# Altium integrated library ON Semi Signal Management Audio Amplifiers.IntLib: 87 symbols (part 3 of 4)
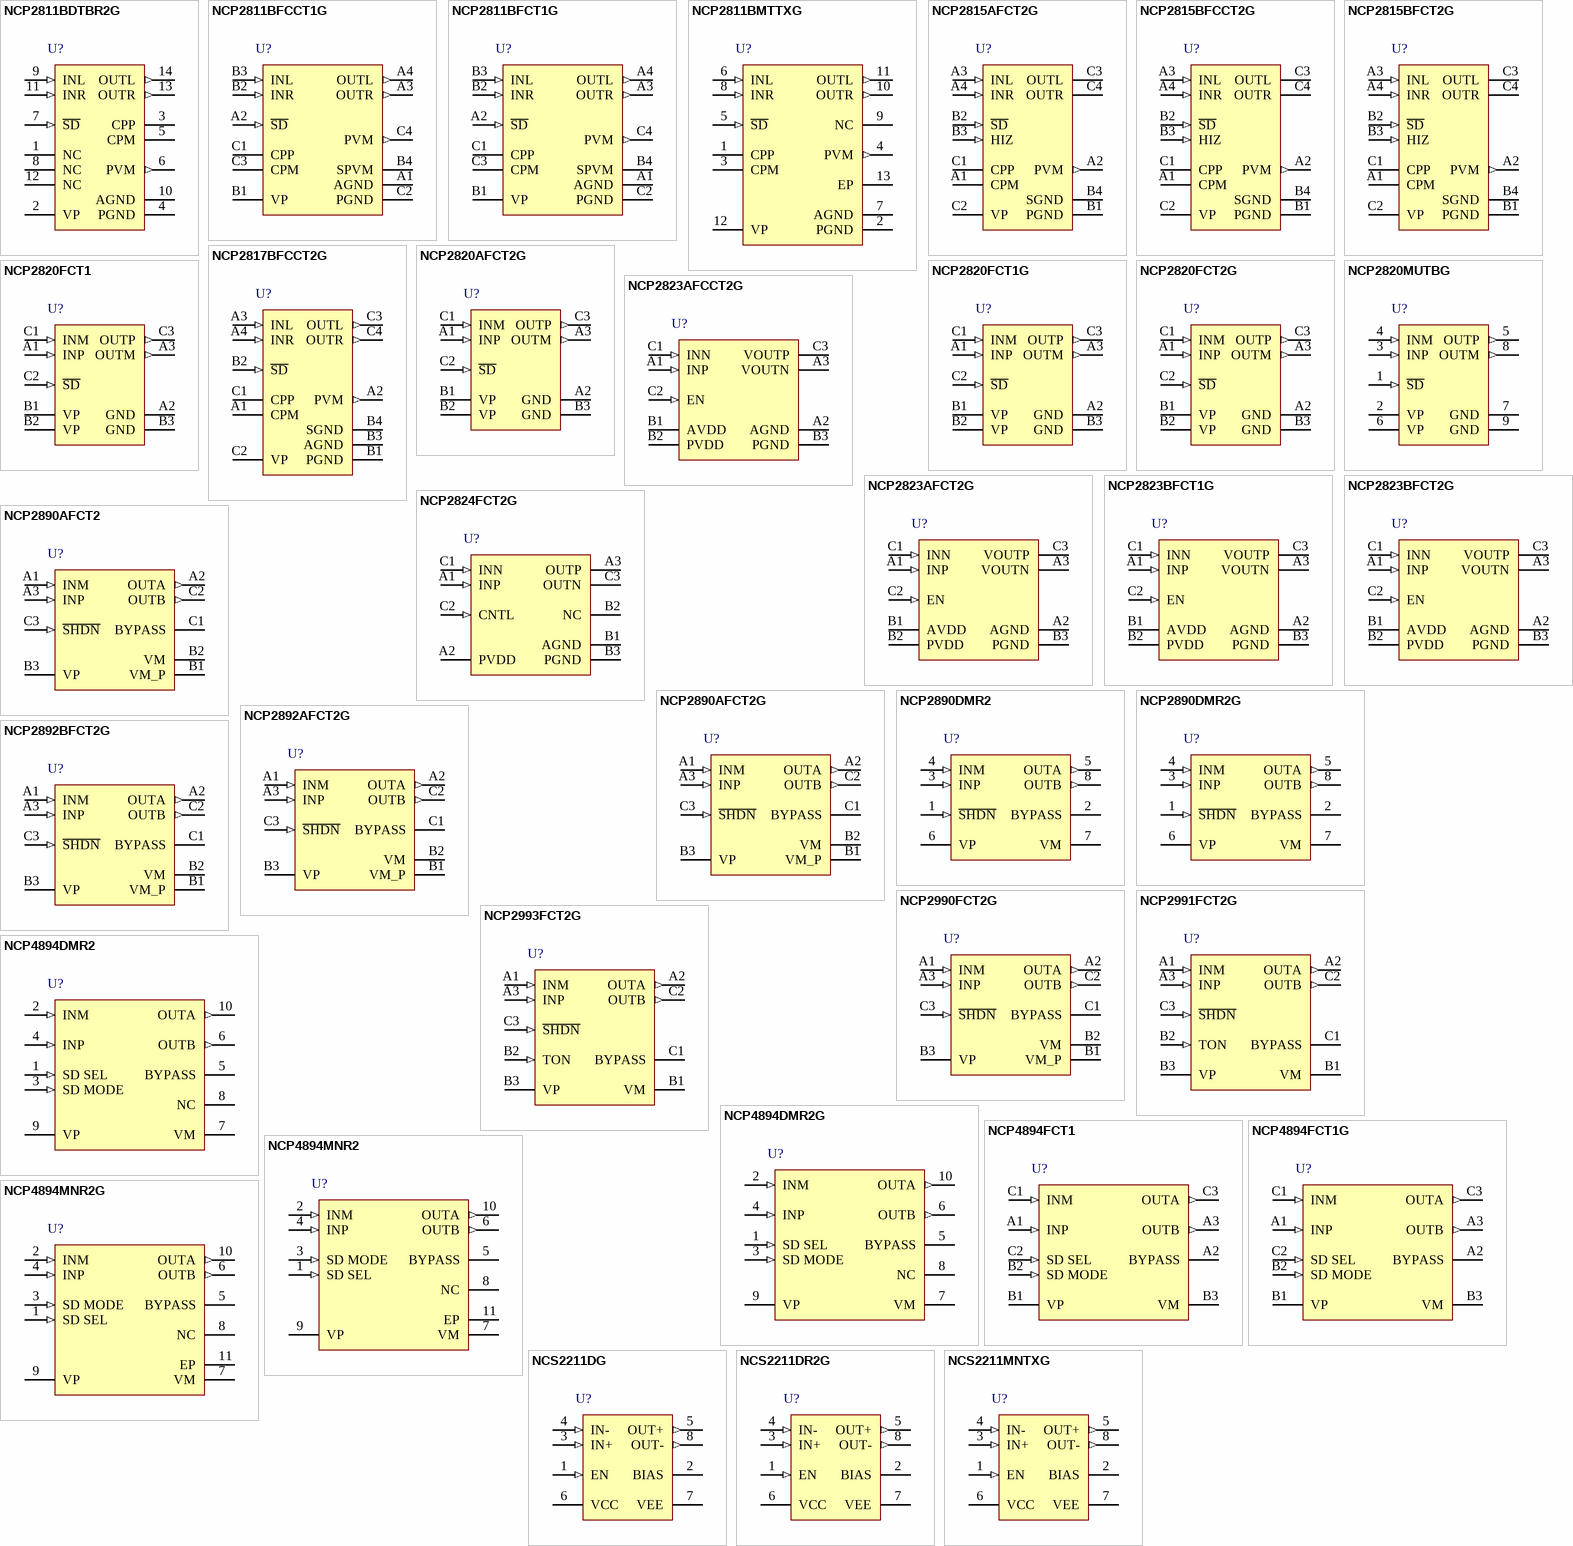
[diagram p5: symbols NCP2811BDTBR2G to NCS2211MNTXG]

## NCP2820FCT2G
designator U?
2.65 W Filterless Class-D Audio Power Amplifier, -40 to 85 degC, 9-Pin FLIP-CHIP, Pb-Free, Tape and Reel; Manufacturer: On Semiconductor; PartNumber: NCP2820FCT2G; ton Typ (ms): 9; DatasheetVersion: Rev. 8; PackageVersion: Rev. O, 08/2004; PackageReference: FLIP-CHIP-9-499AL-01; PackageDescription: 9-Ball Flip Chip Ball Grid Array, Body 1.45 x 1.45 mm, Pitch 0.5 mm; Supplier 1: Digi-Key; Supplier Part Number 1: NCP2820FCT2GOSTR-ND; Supplier 2: Digi-Key; Supplier Part Number 2: NCP2820FCT2GOSCT-ND; Supplier 3: Digi-Key; Supplier Part Number 3: NCP2820FCT2GOSDKR-ND; Supplier 4: Mouser; Supplier Part Number 4: 863-NCP2820FCT2G; Packing: Tape and Reel; RoHS: TRUE; Mounting Technology: Surface Mount; ComponentLink1Description: Manufacturer URL; ComponentLink1URL: http://www.onsemi.com/; ComponentLink2Description: Datasheet; ComponentLink2URL: http://www.onsemi.com/pub/Collateral/NCP2820-D.PDF; ComponentLink3Description: Package Specification; ComponentLink3URL: http://www.onsemi.com/pub_link/Collateral/499AL.PDF
footprint ONSC-FLIP-CHIP-9-499AL-01 (BGA, 9-Balls, Body 1.45x1.45mm, Pitch 0.5mm)
pins: A1 INP (in) "Positive Differential Input.", A2 GND (power) "Analog Ground.", A3 OUTM (out) "Negative BTL Output.", B1 VP (power) "Analog Positive Supply. Range: 2.5 V - 5.5 V.", B2 VP (power) "Power Analog Positive Supply. Range: 2.5 V - 5.5 V.", B3 GND (power) "Analog Ground.", C1 INM (in) "Negative Differential Input.", C2 ~{SD} (in) "The device enters in Shutdown Mode when a low level is applied on this pin. An internal 300 kohm resistor will force the device in shutdown mode if no signal is applied to this pin. It also helps to save space and cost.", C3 OUTP (out) "Positive BTL Output."

## NCP2820MUTBG
designator U?
2.65 W Filterless Class-D Audio Power Amplifier, -40 to 85 degC, 8-Pin UDFN, Pb-Free, Tape and Reel; Manufacturer: On Semiconductor; PartNumber: NCP2820MUTBG; ton Typ (ms): 9; DatasheetVersion: Rev. 8; PackageVersion: Rev. B, 09/2006; PackageReference: UDFN-8-506AV_B; PackageDescription: 8-Pin Small Outline No-Lead, Body 2 x 2.2 mm, Pitch 0.5 mm; Supplier 1: Digi-Key; Supplier Part Number 1: NCP2820MUTBGOSTR-ND; Supplier 2: Digi-Key; Supplier Part Number 2: NCP2820MUTBGOSCT-ND; Supplier 3: Digi-Key; Supplier Part Number 3: NCP2820MUTBGOSDKR-ND; Supplier 4: Newark; Supplier Part Number 4: 27M2532; Supplier 5: Mouser; Supplier Part Number 5: 863-NCP2820MUTBG; Packing: Tape and Reel; RoHS: TRUE; Mounting Technology: Surface Mount; ComponentLink1Description: Manufacturer URL; ComponentLink1URL: http://www.onsemi.com/; ComponentLink2Description: Datasheet; ComponentLink2URL: http://www.onsemi.com/pub/Collateral/NCP2820-D.PDF; ComponentLink3Description: Package Specification; ComponentLink3URL: http://www.onsemi.cn/pub_link/Collateral/NCP2820-D.PDF
footprint ONSC-UDFN-8-506AV_B_V (SON, 8-Leads, Body 2.2x2mm, Pitch 0.5mm, Thermal Pad 1.6x0.8mm)
pins: 1 ~{SD} (in) "The device enters in Shutdown Mode when a low level is applied on this pin. An internal 300 kohm resistor will force the device in shutdown mode if no signal is applied to this pin. It also helps to save space and cost.", 2 VP (power) "Analog Positive Supply. Range: 2.5 V - 5.5 V.", 3 INP (in) "Positive Differential Input.", 4 INM (in) "Negative Differential Input.", 5 OUTP (out) "Positive BTL Output.", 6 VP (power) "Power Analog Positive Supply. Range: 2.5 V - 5.5 V.", 7 GND (power) "Analog Ground.", 8 OUTM (out) "Negative BTL Output.", 9 GND (power) "Analog Ground."

## NCP2823AFCCT2G
designator U?
High Efficiency 3 W Filterless Class-D Audio Amplifier, -40 to 85 degC, 9-Pin FLIP-CHIP, Pb-Free, Tape and Reel; Manufacturer: On Semiconductor; PartNumber: NCP2823AFCCT2G; Efficiency Typ (%): 92; ISD Typ (nA): 10; ton Typ (ms): 7.4; DatasheetVersion: Rev. 2; PackageVersion: Rev. O, 08/2004; PackageReference: FLIP-CHIP-9-499AL-01; PackageDescription: 9-Ball Flip Chip Ball Grid Array, Body 1.45 x 1.45 mm, Pitch 0.5 mm; Packing: Tape and Reel; RoHS: TRUE; Mounting Technology: Surface Mount; ComponentLink1Description: Manufacturer URL; ComponentLink1URL: http://www.onsemi.com/; ComponentLink2Description: Datasheet; ComponentLink2URL: http://www.onsemi.com/pub_link/Collateral/NCP2823-D.PDF; ComponentLink3Description: Package Specification; ComponentLink3URL: http://www.onsemi.com/pub_link/Collateral/499AL.PDF
footprint ONSC-FLIP-CHIP-9-499AL-01 (BGA, 9-Balls, Body 1.45x1.45mm, Pitch 0.5mm)
pins: A1 INP (in) "Positive Differential Input", A2 AGND (power) "Analog Ground: This pin is the analog ground of the device and must be connected to GND plane.", A3 VOUTN (hiz) "Negative output: Special care must be observed at layout level. See the Layout recommendations.", B1 AVDD (power) "Analog Power Supply: This pin must be connected to PVDD.", B2 PVDD (power) "Power Supply: This pin is the power supply of the device. A 4.7 uF ceramic capacitor or larger must bypass this input to the ground. This capacitor should be placed as close a possible to this input.", B3 PGND (power) "Power Ground: This pin is the power ground and carries the high switching current. A high quality ground must be provided to avoid any noise spikes/uncontrolled operation. Care must be observed to avoid high-densit(See Datasheet)", C1 INN (in) "Negative Differential Input", C2 EN (in) "Enable: When a High logic is applied to this pin, the device is activated", C3 VOUTP (hiz) "Positive output Special care must be observed at layout level. See the Layout recommendations."

## NCP2823AFCT2G
designator U?
High Efficiency 3 W Filterless Class-D Audio Amplifier, -40 to 85 degC, 9-Pin FLIP-CHIP, Pb-Free, Tape and Reel; Manufacturer: On Semiconductor; PartNumber: NCP2823AFCT2G; Efficiency Typ (%): 92; ISD Typ (nA): 10; ton Typ (ms): 7.4; DatasheetVersion: Rev. 2; PackageVersion: Rev. O, 08/2004; PackageReference: FLIP-CHIP-9-499AL-01; PackageDescription: 9-Ball Flip Chip Ball Grid Array, Body 1.45 x 1.45 mm, Pitch 0.5 mm; Supplier 1: Digi-Key; Supplier Part Number 1: NCP2823AFCT2G-ND; Supplier 2: Mouser; Supplier Part Number 2: 863-NCP2823AFCT2G; Packing: Tape and Reel; RoHS: TRUE; Mounting Technology: Surface Mount; ComponentLink1Description: Manufacturer URL; ComponentLink1URL: http://www.onsemi.com/; ComponentLink2Description: Datasheet; ComponentLink2URL: http://www.onsemi.com/pub_link/Collateral/NCP2823-D.PDF; ComponentLink3Description: Package Specification; ComponentLink3URL: http://www.onsemi.com/pub_link/Collateral/499AL.PDF
footprint ONSC-FLIP-CHIP-9-499AL-01 (BGA, 9-Balls, Body 1.45x1.45mm, Pitch 0.5mm)
pins: A1 INP (in) "Positive Differential Input", A2 AGND (power) "Analog Ground: This pin is the analog ground of the device and must be connected to GND plane.", A3 VOUTN (hiz) "Negative output: Special care must be observed at layout level. See the Layout recommendations.", B1 AVDD (power) "Analog Power Supply: This pin must be connected to PVDD.", B2 PVDD (power) "Power Supply: This pin is the power supply of the device. A 4.7 uF ceramic capacitor or larger must bypass this input to the ground. This capacitor should be placed as close a possible to this input.", B3 PGND (power) "Power Ground: This pin is the power ground and carries the high switching current. A high quality ground must be provided to avoid any noise spikes/uncontrolled operation. Care must be observed to avoid high-densit(See Datasheet)", C1 INN (in) "Negative Differential Input", C2 EN (in) "Enable: When a High logic is applied to this pin, the device is activated", C3 VOUTP (hiz) "Positive output Special care must be observed at layout level. See the Layout recommendations."

## NCP2823BFCT1G
designator U?
High Efficiency 3 W Filterless Class-D Audio Amplifier, -40 to 85 degC, 9-Pin FLIP-CHIP, Pb-Free, Tape and Reel; Manufacturer: On Semiconductor; PartNumber: NCP2823BFCT1G; Efficiency Typ (%): 90; ISD Typ (nA): 10; ton Typ (ms): 7.4; DatasheetVersion: Rev. 2; PackageVersion: Rev. O, 08/2004; PackageReference: FLIP-CHIP-9-499AL-01; PackageDescription: 9-Ball Flip Chip Ball Grid Array, Body 1.45 x 1.45 mm, Pitch 0.5 mm; Packing: Tape and Reel; RoHS: TRUE; Mounting Technology: Surface Mount; ComponentLink1Description: Manufacturer URL; ComponentLink1URL: http://www.onsemi.com/; ComponentLink2Description: Datasheet; ComponentLink2URL: http://www.onsemi.com/pub_link/Collateral/NCP2823-D.PDF; ComponentLink3Description: Package Specification; ComponentLink3URL: http://www.onsemi.com/pub_link/Collateral/499AL.PDF
footprint ONSC-FLIP-CHIP-9-499AL-01 (BGA, 9-Balls, Body 1.45x1.45mm, Pitch 0.5mm)
pins: A1 INP (in) "Positive Differential Input", A2 AGND (power) "Analog Ground: This pin is the analog ground of the device and must be connected to GND plane.", A3 VOUTN (hiz) "Negative output: Special care must be observed at layout level. See the Layout recommendations.", B1 AVDD (power) "Analog Power Supply: This pin must be connected to PVDD.", B2 PVDD (power) "Power Supply: This pin is the power supply of the device. A 4.7 uF ceramic capacitor or larger must bypass this input to the ground. This capacitor should be placed as close a possible to this input.", B3 PGND (power) "Power Ground: This pin is the power ground and carries the high switching current. A high quality ground must be provided to avoid any noise spikes/uncontrolled operation. Care must be observed to avoid high-densit(See Datasheet)", C1 INN (in) "Negative Differential Input", C2 EN (in) "Enable: When a High logic is applied to this pin, the device is activated", C3 VOUTP (hiz) "Positive output Special care must be observed at layout level. See the Layout recommendations."

## NCP2823BFCT2G
designator U?
High Efficiency 3 W Filterless Class-D Audio Amplifier, -40 to 85 degC, 9-Pin FLIP-CHIP, Pb-Free, Tape and Reel; Manufacturer: On Semiconductor; PartNumber: NCP2823BFCT2G; Efficiency Typ (%): 90; ISD Typ (nA): 10; ton Typ (ms): 7.4; DatasheetVersion: Rev. 2; PackageVersion: Rev. O, 08/2004; PackageReference: FLIP-CHIP-9-499AL-01; PackageDescription: 9-Ball Flip Chip Ball Grid Array, Body 1.45 x 1.45 mm, Pitch 0.5 mm; Supplier 1: Digi-Key; Supplier Part Number 1: NCP2823BFCT2G-ND; Supplier 2: Mouser; Supplier Part Number 2: 863-NCP2823BFCT2G; Packing: Tape and Reel; RoHS: TRUE; Mounting Technology: Surface Mount; ComponentLink1Description: Manufacturer URL; ComponentLink1URL: http://www.onsemi.com/; ComponentLink2Description: Datasheet; ComponentLink2URL: http://www.onsemi.com/pub_link/Collateral/NCP2823-D.PDF; ComponentLink3Description: Package Specification; ComponentLink3URL: http://www.onsemi.com/pub_link/Collateral/499AL.PDF
footprint ONSC-FLIP-CHIP-9-499AL-01 (BGA, 9-Balls, Body 1.45x1.45mm, Pitch 0.5mm)
pins: A1 INP (in) "Positive Differential Input", A2 AGND (power) "Analog Ground: This pin is the analog ground of the device and must be connected to GND plane.", A3 VOUTN (hiz) "Negative output: Special care must be observed at layout level. See the Layout recommendations.", B1 AVDD (power) "Analog Power Supply: This pin must be connected to PVDD.", B2 PVDD (power) "Power Supply: This pin is the power supply of the device. A 4.7 uF ceramic capacitor or larger must bypass this input to the ground. This capacitor should be placed as close a possible to this input.", B3 PGND (power) "Power Ground: This pin is the power ground and carries the high switching current. A high quality ground must be provided to avoid any noise spikes/uncontrolled operation. Care must be observed to avoid high-densit(See Datasheet)", C1 INN (in) "Negative Differential Input", C2 EN (in) "Enable: When a High logic is applied to this pin, the device is activated", C3 VOUTP (hiz) "Positive output Special care must be observed at layout level. See the Layout recommendations."

## NCP2824FCT2G
designator U?
Non-Clip and Power Limit Mono Class-D Amplifier with AGC, -40 to 85 degC, 9-Pin FLIP-CHIP, Pb-Free, Tape and Reel; Manufacturer: On Semiconductor; PartNumber: NCP2824FCT2G; ISD Typ (nA): 10; ton Typ (ms): 7.4; DatasheetVersion: Rev. 0; PackageVersion: Rev. O, 08/2004; PackageReference: FLIP-CHIP-9-499AL-01; PackageDescription: 9-Ball Flip Chip Ball Grid Array, Body 1.45 x 1.45 mm, Pitch 0.5 mm; Supplier 1: Digi-Key; Supplier Part Number 1: NCP2824FCT2GOSTR-ND; Supplier 2: Digi-Key; Supplier Part Number 2: NCP2824FCT2GOSCT-ND; Supplier 3: Digi-Key; Supplier Part Number 3: NCP2824FCT2GOSDKR-ND; Supplier 4: Farnell; Supplier Part Number 4: 1885120; Supplier 5: Newark; Supplier Part Number 5: 41T0725; Supplier 6: Mouser; Supplier Part Number 6: 863-NCP2824FCT2G; Packing: Tape and Reel; RoHS: TRUE; Mounting Technology: Surface Mount; ComponentLink1Description: Manufacturer URL; ComponentLink1URL: http://www.onsemi.com/; ComponentLink2Description: Datasheet; ComponentLink2URL: http://www.onsemi.com/pub_link/Collateral/NCP2824-D.PDF; ComponentLink3Description: Package Specification; ComponentLink3URL: http://www.onsemi.com/pub_link/Collateral/499AL.PDF
footprint ONSC-FLIP-CHIP-9-499AL-01 (BGA, 9-Balls, Body 1.45x1.45mm, Pitch 0.5mm)
pins: A1 INP (in) "Positive Input", A2 PVDD (power) "Power Supply: This pin is the power supply of the device. A 4.7 uF ceramic capacitor or larger must bypass this input to the ground. This capacitor should be placed as close a possible to this input.", A3 OUTP (hiz) "Positive output: Special care must be observed at layout level. See the Layout consideration section", B1 AGND (power) "Analog Ground: This pin is the analog ground of the device and must be connected to GND plane.", B2 NC "Non-connected: reserved for production. Must be kept floating in the final application", B3 PGND (power) "Power Ground: This pin is the power ground and carries the high switching current. A high quality ground must be provided to avoid any noise spikes/uncontrolled operation. Care must be observed to avoid high-densit(See Datasheet)", C1 INN (in) "Negative Input", C2 CNTL (in) "Control: This pin is dedicated to the control of the chip via the Single wire protocol", C3 OUTN (hiz) "Negative output: Special care must be observed at layout level. See the Layout consideration section"

## NCP2890AFCT2
designator U?
1.0 W Audio Power Amplifier, -40 to 85 degC, 9-Pin FLIP-CHIP, Tape and Reel; Manufacturer: On Semiconductor; PartNumber: NCP2890AFCT2; ISD Typ (nA): 10; ton Typ (ms): 285; DatasheetVersion: Rev. 10; PackageVersion: Rev. A, 06/2004; PackageReference: FLIP-CHIP-9-499E-01; PackageDescription: 9-Ball Flip Chip Ball Grid Array, Body 1.45 x 1.45 mm, Pitch 0.5 mm; Supplier 1: Digi-Key; Supplier Part Number 1: NCP2890AFCT2-ND; Packing: Tape and Reel; RoHS: FALSE; Mounting Technology: Surface Mount; ComponentLink1Description: Manufacturer URL; ComponentLink1URL: http://www.onsemi.com/; ComponentLink2Description: Datasheet; ComponentLink2URL: http://www.onsemi.com/pub_link/Collateral/NCP2890-D.PDF; ComponentLink3Description: Package Specification; ComponentLink3URL: http://www.onsemi.com/pub_link/Collateral/499E.PDF
footprint ONSC-FLIP-CHIP-9-499E-01 (BGA, 9-Balls, Body 1.45x1.45mm, Pitch 0.5mm)
pins: A1 INM (in) "Negative input of the first amplifier, receives the audio input signal. Connected to the feedback resistor Rf and to the input resistor Rin.", A2 OUTA (out) "Connected to the load and to the feedback resistor Rf.", A3 INP (in) "Positive input of the first amplifier, receives the common mode voltage.", B1 VM_P (power) "Power Analog Ground.", B2 VM (power) "Core Analog Ground.", B3 VP (power) "Positive analog supply of the cell. Range: 2.2 V-5.5 V.", C1 BYPASS "Bypass capacitor pin which provides the common mode voltage (Vp/2).", C2 OUTB (out) "Connected to the load.", C3 ~{SHDN} (in) "The device enters in shutdown mode when a low level is applied on this pin."

## NCP2890AFCT2G
designator U?
1.0 W Audio Power Amplifier, -40 to 85 degC, 9-Pin FLIP-CHIP, Pb-Free, Tape and Reel; Manufacturer: On Semiconductor; PartNumber: NCP2890AFCT2G; ISD Typ (nA): 10; ton Typ (ms): 285; DatasheetVersion: Rev. 10; PackageVersion: Rev. A, 06/2004; PackageReference: FLIP-CHIP-9-499E-01; PackageDescription: 9-Ball Flip Chip Ball Grid Array, Body 1.45 x 1.45 mm, Pitch 0.5 mm; Supplier 1: Digi-Key; Supplier Part Number 1: NCP2890AFCT2GOSTR-ND; Supplier 2: Digi-Key; Supplier Part Number 2: NCP2890AFCT2GOSCT-ND; Supplier 3: Mouser; Supplier Part Number 3: 863-NCP2890AFCT2G; Packing: Tape and Reel; RoHS: TRUE; Mounting Technology: Surface Mount; ComponentLink1Description: Manufacturer URL; ComponentLink1URL: http://www.onsemi.com/; ComponentLink2Description: Datasheet; ComponentLink2URL: http://www.onsemi.com/pub_link/Collateral/NCP2890-D.PDF; ComponentLink3Description: Package Specification; ComponentLink3URL: http://www.onsemi.com/pub_link/Collateral/499E.PDF
footprint ONSC-FLIP-CHIP-9-499E-01 (BGA, 9-Balls, Body 1.45x1.45mm, Pitch 0.5mm)
pins: A1 INM (in) "Negative input of the first amplifier, receives the audio input signal. Connected to the feedback resistor Rf and to the input resistor Rin.", A2 OUTA (out) "Connected to the load and to the feedback resistor Rf.", A3 INP (in) "Positive input of the first amplifier, receives the common mode voltage.", B1 VM_P (power) "Power Analog Ground.", B2 VM (power) "Core Analog Ground.", B3 VP (power) "Positive analog supply of the cell. Range: 2.2 V-5.5 V.", C1 BYPASS "Bypass capacitor pin which provides the common mode voltage (Vp/2).", C2 OUTB (out) "Connected to the load.", C3 ~{SHDN} (in) "The device enters in shutdown mode when a low level is applied on this pin."

## NCP2890DMR2
designator U?
1.0 W Audio Power Amplifier, -40 to 85 degC, 8-Pin MICRO, Tape and Reel; Manufacturer: On Semiconductor; PartNumber: NCP2890DMR2; ISD Typ (nA): 10; ton Typ (ms): 285; DatasheetVersion: Rev. 10; PackageVersion: Rev. H; PackageReference: MICRO-8-846A-02_H; PackageDescription: 8-Pin Small Outline Package, Body 3 x 3 mm, Pitch 0.65 mm; Supplier 1: Digi-Key; Supplier Part Number 1: NCP2890DMR2OSTR-ND; Supplier 2: Digi-Key; Supplier Part Number 2: NCP2890DMR2OSCT-ND; Packing: Tape and Reel; RoHS: FALSE; Mounting Technology: Surface Mount; ComponentLink1Description: Manufacturer URL; ComponentLink1URL: http://www.onsemi.com/; ComponentLink2Description: Datasheet; ComponentLink2URL: http://www.onsemi.com/pub_link/Collateral/NCP2890-D.PDF; ComponentLink3Description: Package Specification; ComponentLink3URL: http://www.onsemi.com/pub_link/Collateral/NLSV2T244-D.PDF
footprint ONSC-MICRO-8-846A-02_H_V (SOIC, 8-Leads, Body 3.1x3.1mm, Pitch 0.65mm)
pins: 1 ~{SHDN} (in) "The device enters in shutdown mode when a low level is applied on this pin.", 2 BYPASS "Bypass capacitor pin which provides the common mode voltage (Vp/2).", 3 INP (in) "Positive input of the first amplifier, receives the common mode voltage.", 4 INM (in) "Negative input of the first amplifier, receives the audio input signal. Connected to the feedback resistor Rf and to the input resistor Rin.", 5 OUTA (out) "Negative output of the NCP2890. Connected to the load and to the feedback resistor Rf.", 6 VP (power) "Positive analog supply of the cell. Range: 2.2 V-5.5 V.", 7 VM (power) "Core Analog Ground.", 8 OUTB (out) "Positive output of the NCP2890. Connected to the load."

## NCP2890DMR2G
designator U?
1.0 W Audio Power Amplifier, -40 to 85 degC, 8-Pin MICRO, Pb-Free, Tape and Reel; Manufacturer: On Semiconductor; PartNumber: NCP2890DMR2G; ISD Typ (nA): 10; ton Typ (ms): 285; DatasheetVersion: Rev. 10; PackageVersion: Rev. H; PackageReference: MICRO-8-846A-02_H; PackageDescription: 8-Pin Small Outline Package, Body 3 x 3 mm, Pitch 0.65 mm; Supplier 1: Digi-Key; Supplier Part Number 1: NCP2890DMR2GOSTR-ND; Supplier 2: Digi-Key; Supplier Part Number 2: NCP2890DMR2GOSCT-ND; Supplier 3: Digi-Key; Supplier Part Number 3: NCP2890DMR2GOSDKR-ND; Supplier 4: Newark; Supplier Part Number 4: 45J1870; Supplier 5: Mouser; Supplier Part Number 5: 863-NCP2890DMR2G; Packing: Tape and Reel; RoHS: TRUE; Mounting Technology: Surface Mount; ComponentLink1Description: Manufacturer URL; ComponentLink1URL: http://www.onsemi.com/; ComponentLink2Description: Datasheet; ComponentLink2URL: http://www.onsemi.com/pub_link/Collateral/NCP2890-D.PDF; ComponentLink3Description: Package Specification; ComponentLink3URL: http://www.onsemi.com/pub_link/Collateral/NLSV2T244-D.PDF
footprint ONSC-MICRO-8-846A-02_H_V (SOIC, 8-Leads, Body 3.1x3.1mm, Pitch 0.65mm)
pins: 1 ~{SHDN} (in) "The device enters in shutdown mode when a low level is applied on this pin.", 2 BYPASS "Bypass capacitor pin which provides the common mode voltage (Vp/2).", 3 INP (in) "Positive input of the first amplifier, receives the common mode voltage.", 4 INM (in) "Negative input of the first amplifier, receives the audio input signal. Connected to the feedback resistor Rf and to the input resistor Rin.", 5 OUTA (out) "Negative output of the NCP2890. Connected to the load and to the feedback resistor Rf.", 6 VP (power) "Positive analog supply of the cell. Range: 2.2 V-5.5 V.", 7 VM (power) "Core Analog Ground.", 8 OUTB (out) "Positive output of the NCP2890. Connected to the load."

## NCP2892AFCT2G
designator U?
1.3 W Audio Power Amplifier with Fast Turn On Time, -40 to 85 degC, 9-Pin FLIP-CHIP, Pb-Free, Tape and Reel; Manufacturer: On Semiconductor; PartNumber: NCP2892AFCT2G; ISD Typ (nA): 10; ton Typ (ms): 90; DatasheetVersion: Rev. 3; PackageVersion: Rev. A, 06/2004; PackageReference: FLIP-CHIP-9-499E-01; PackageDescription: 9-Ball Flip Chip Ball Grid Array, Body 1.45 x 1.45 mm, Pitch 0.5 mm; Supplier 1: Digi-Key; Supplier Part Number 1: NCP2892AFCT2G-ND; Supplier 2: Mouser; Supplier Part Number 2: 863-NCP2892AFCT2G; Packing: Tape and Reel; RoHS: TRUE; Mounting Technology: Surface Mount; ComponentLink1Description: Manufacturer URL; ComponentLink1URL: http://www.onsemi.com/; ComponentLink2Description: Datasheet; ComponentLink2URL: http://www.onsemi.com/pub_link/Collateral/NCP2892-D.PDF; ComponentLink3Description: Package Specification; ComponentLink3URL: http://www.onsemi.com/pub_link/Collateral/499E.PDF
footprint ONSC-FLIP-CHIP-9-499E-01 (BGA, 9-Balls, Body 1.45x1.45mm, Pitch 0.5mm)
pins: A1 INM (in) "Negative input of the first amplifier, receives the audio input signal. Connected to the feedback resistor Rf and to the input resistor Rin.", A2 OUTA (out) "Connected to the load and to the feedback resistor Rf.", A3 INP (in) "Positive input of the first amplifier, receives the common mode voltage.", B1 VM_P (power) "Power Analog Ground.", B2 VM (power) "Core Analog Ground.", B3 VP (power) "Positive analog supply of the cell. Range: 2.2 V-5.5 V.", C1 BYPASS "Bypass capacitor pin which provides the common mode voltage (Vp/2).", C2 OUTB (out) "Connected to the load.", C3 ~{SHDN} (in) "The device enters in shutdown mode when a low level is applied on this pin."

## NCP2892BFCT2G
designator U?
1.3 W Audio Power Amplifier with Fast Turn On Time, -40 to 85 degC, 9-Pin FLIP-CHIP, Pb-Free, Tape and Reel; Manufacturer: On Semiconductor; PartNumber: NCP2892BFCT2G; ISD Typ (nA): 10; ton Typ (ms): 90; DatasheetVersion: Rev. 3; PackageVersion: Rev. A, 06/2004; PackageReference: FLIP-CHIP-9-499E-01; PackageDescription: 9-Ball Flip Chip Ball Grid Array, Body 1.45 x 1.45 mm, Pitch 0.5 mm; Supplier 1: Digi-Key; Supplier Part Number 1: NCP2892BFCT2G-ND; Supplier 2: Newark; Supplier Part Number 2: 27M2533; Supplier 3: Mouser; Supplier Part Number 3: 863-NCP2892BFCT2G; Packing: Tape and Reel; RoHS: TRUE; Mounting Technology: Surface Mount; ComponentLink1Description: Manufacturer URL; ComponentLink1URL: http://www.onsemi.com/; ComponentLink2Description: Datasheet; ComponentLink2URL: http://www.onsemi.com/pub_link/Collateral/NCP2892-D.PDF; ComponentLink3Description: Package Specification; ComponentLink3URL: http://www.onsemi.com/pub_link/Collateral/499E.PDF
footprint ONSC-FLIP-CHIP-9-499E-01 (BGA, 9-Balls, Body 1.45x1.45mm, Pitch 0.5mm)
pins: A1 INM (in) "Negative input of the first amplifier, receives the audio input signal. Connected to the feedback resistor Rf and to the input resistor Rin.", A2 OUTA (out) "Connected to the load and to the feedback resistor Rf.", A3 INP (in) "Positive input of the first amplifier, receives the common mode voltage.", B1 VM_P (power) "Power Analog Ground.", B2 VM (power) "Core Analog Ground.", B3 VP (power) "Positive analog supply of the cell. Range: 2.2 V-5.5 V.", C1 BYPASS "Bypass capacitor pin which provides the common mode voltage (Vp/2).", C2 OUTB (out) "Connected to the load.", C3 ~{SHDN} (in) "The device enters in shutdown mode when a low level is applied on this pin."

## NCP2990FCT2G
designator U?
1.3 W Audio Power Amplifier with Fast Turn On Time, -40 to 85 degC, 9-Pin FLIP-CHIP, Pb-Free, Tape and Reel; Manufacturer: On Semiconductor; PartNumber: NCP2990FCT2G; ISD Typ (nA): 20; ton Typ (ms): 60; DatasheetVersion: Rev. 1; PackageVersion: Rev. A, 06/2004; PackageReference: FLIP-CHIP-9-499E-01; PackageDescription: 9-Ball Flip Chip Ball Grid Array, Body 1.45 x 1.45 mm, Pitch 0.5 mm; Supplier 1: Digi-Key; Supplier Part Number 1: NCP2990FCT2G-ND; Supplier 2: Mouser; Supplier Part Number 2: 863-NCP2990FCT2G; Packing: Tape and Reel; RoHS: TRUE; Mounting Technology: Surface Mount; ComponentLink1Description: Manufacturer URL; ComponentLink1URL: http://www.onsemi.com/; ComponentLink2Description: Datasheet; ComponentLink2URL: http://www.onsemi.cn/pub_link/Collateral/NCP2990-D.PDF; ComponentLink3Description: Package Specification; ComponentLink3URL: http://www.onsemi.com/pub_link/Collateral/499E.PDF
footprint ONSC-FLIP-CHIP-9-499E-01 (BGA, 9-Balls, Body 1.45x1.45mm, Pitch 0.5mm)
pins: A1 INM (in) "Negative input of the first amplifier, receives the audio input signal. Connected to the feedback resistor Rf and to the input resistor Rin.", A2 OUTA (out) "Connected to the load and to the feedback resistor Rf.", A3 INP (in) "Positive input of the first amplifier, receives the common mode voltage.", B1 VM_P (power) "Power Analog Ground.", B2 VM (power) "Core Analog Ground.", B3 VP (power) "Positive analog supply of the cell. Range: 2.2 V-5.5 V.", C1 BYPASS "Bypass capacitor pin which provides the common mode voltage (Vp/2).", C2 OUTB (out) "Connected to the load.", C3 ~{SHDN} (in) "The device enters in shutdown mode when a low level is applied on this pin."

## NCP2991FCT2G
designator U?
1.35 W Audio Power Amplifier with Selectable Fast Turn On Time, -40 to 85 degC, 9-Pin FLIP-CHIP, Pb-Free, Tape and Reel; Manufacturer: On Semiconductor; PartNumber: NCP2991FCT2G; ISD Typ (nA): 20; DatasheetVersion: Rev. 2; PackageVersion: Rev. A, 06/2004; PackageReference: FLIP-CHIP-9-499E-01; PackageDescription: 9-Ball Flip Chip Ball Grid Array, Body 1.45 x 1.45 mm, Pitch 0.5 mm; Supplier 1: Digi-Key; Supplier Part Number 1: NCP2991FCT2G-ND; Supplier 2: Mouser; Supplier Part Number 2: 863-NCP2991FCT2G; Packing: Tape and Reel; RoHS: TRUE; Mounting Technology: Surface Mount; ComponentLink1Description: Manufacturer URL; ComponentLink1URL: http://www.onsemi.com/; ComponentLink2Description: Datasheet; ComponentLink2URL: http://www.onsemi.cn/pub_link/Collateral/NCP2991-D.PDF; ComponentLink3Description: Package Specification; ComponentLink3URL: http://www.onsemi.com/pub_link/Collateral/499E.PDF
footprint ONSC-FLIP-CHIP-9-499E-01 (BGA, 9-Balls, Body 1.45x1.45mm, Pitch 0.5mm)
pins: A1 INM (in) "Negative input of the first amplifier, receives the audio input signal. Connected to the feedback resistor Rf and to the input resistor Rin.", A2 OUTA (out) "Connected to the load and to the feedback resistor Rf.", A3 INP (in) "Positive input of the first amplifier, receives the common mode voltage.", B1 VM (power) "Analog Ground.", B2 TON (in) "TON pin selects 2 different Turn On times: TON = GND -> 30 ms TON = VP -> 15 ms", B3 VP (power) "Positive analog supply of the cell. Range: 2.5 V-5.5 V.", C1 BYPASS "Bypass capacitor pin which provides the common mode voltage (Vp/2).", C2 OUTB (out) "Connected to the load.", C3 ~{SHDN} (in) "The device enters in shutdown mode when a low level is applied on this pin."

## NCP2993FCT2G
designator U?
1.3 W Audio Power Amplifier with Selectable Fast Turn On Time, -40 to 85 degC, 9-Pin WLCSP, Pb-Free, Tape and Reel; Manufacturer: On Semiconductor; PartNumber: NCP2993FCT2G; ISD Typ (nA): 20; DatasheetVersion: Rev. 1; PackageVersion: Rev. O, 09/2010; PackageReference: WLCSP-9-499BM-01; PackageDescription: 9-Ball Wafer Level Chip Scale Package, Body 1.22 x 1.22 mm, Pitch 0.4 mm; Supplier 1: Digi-Key; Supplier Part Number 1: NCP2993FCT2G-ND; Supplier 2: Newark; Supplier Part Number 2: 28X7963; Supplier 3: Mouser; Supplier Part Number 3: 863-NCP2993FCT2G; Packing: Tape and Reel; RoHS: TRUE; Mounting Technology: Surface Mount; ComponentLink1Description: Manufacturer URL; ComponentLink1URL: http://www.onsemi.com/; ComponentLink2Description: Datasheet; ComponentLink2URL: http://www.onsemi.cn/pub_link/Collateral/NCP2993-D.PDF; ComponentLink3Description: Package Specification; ComponentLink3URL: http://www.onsemi.com/pub_link/Collateral/499BM.PDF
footprint ONSC-WLCSP-9-499BM-01 (BGA, 9-Balls, Body 1.22x1.22mm, Pitch 0.4mm)
pins: A1 INM (in) "Negative input of the first amplifier, receives the audio input signal. Connected to the feedback resistor Rf and to the input resistor Rin.", A2 OUTA (out) "Connected to the load and to the feedback resistor Rf.", A3 INP (in) "Positive input of the first amplifier, receives the common mode voltage.", B1 VM (power) "Analog Ground.", B2 TON (in) "TON pin selects 2 different Turn On times: TON = GND -> 30 ms TON = VP -> 15 ms", B3 VP (power) "Positive analog supply of the cell. Range: 2.5 V-5.5 V.", C1 BYPASS "Bypass capacitor pin which provides the common mode voltage (Vp/2).", C2 OUTB (out) "Connected to the load.", C3 ~{SHDN} (in) "The device enters in shutdown mode when a low level is applied on this pin."

## NCP4894DMR2
designator U?
1.8 W Differential Audio Power Amplifier with Selectable Shutdown, -40 to 85 degC, 10-Pin MICRO, Tape and Reel; Manufacturer: On Semiconductor; PartNumber: NCP4894DMR2; ISD Typ (nA): 20; ton Typ (ms): 140; DatasheetVersion: Rev. 9; PackageVersion: Rev. D, 12/2004; PackageReference: MICRO-10-846B-03; PackageDescription: 10-Pin Micro Small Outline Package, Body 3 x 3 mm, Pitch 0.5 mm; Supplier 1: Digi-Key; Supplier Part Number 1: NCP4894DMR2-ND; Packing: Tape and Reel; RoHS: FALSE; Mounting Technology: Surface Mount; ComponentLink1Description: Manufacturer URL; ComponentLink1URL: http://www.onsemi.com/; ComponentLink2Description: Datasheet; ComponentLink2URL: http://www.onsemi.cn/pub_link/Collateral/NCP4894-D.PDF; ComponentLink3Description: Package Specification; ComponentLink3URL: http://www.onsemi.cn/pub_link/Collateral/846B-02.PDF
footprint ONSC-MICRO-10-846B-03_V (SOP, 10-Leads, Body 3.1x3.1mm, Pitch 0.5mm)
pins: 1 SD SEL (in) "(Note 1)", 2 INM (in) "Negative Differential Input", 3 SD MODE (in) "Shutdown High or Low Selectivity (Note 1)", 4 INP (in) "Positive Differential Input", 5 BYPASS "Bypass Capacitor Pin which Provides the Common Mode Voltage", 6 OUTB (out) "Negative BTL Output", 7 VM (power) "Ground", 8 NC, 9 VP (power) "Positive Analog Supply of the Cell", 10 OUTA (out) "Positive BTL Output"

## NCP4894DMR2G
designator U?
1.8 W Differential Audio Power Amplifier with Selectable Shutdown, -40 to 85 degC, 10-Pin MICRO, Pb-Free, Tape and Reel; Manufacturer: On Semiconductor; PartNumber: NCP4894DMR2G; ISD Typ (nA): 20; ton Typ (ms): 140; DatasheetVersion: Rev. 9; PackageVersion: Rev. D, 12/2004; PackageReference: MICRO-10-846B-03; PackageDescription: 10-Pin Micro Small Outline Package, Body 3 x 3 mm, Pitch 0.5 mm; Supplier 1: Digi-Key; Supplier Part Number 1: NCP4894DMR2GOSTR-ND; Supplier 2: Digi-Key; Supplier Part Number 2: NCP4894DMR2GOSCT-ND; Supplier 3: Newark; Supplier Part Number 3: 45J1906; Supplier 4: Mouser; Supplier Part Number 4: 863-NCP4894DMR2G; Packing: Tape and Reel; RoHS: TRUE; Mounting Technology: Surface Mount; ComponentLink1Description: Manufacturer URL; ComponentLink1URL: http://www.onsemi.com/; ComponentLink2Description: Datasheet; ComponentLink2URL: http://www.onsemi.cn/pub_link/Collateral/NCP4894-D.PDF; ComponentLink3Description: Package Specification; ComponentLink3URL: http://www.onsemi.cn/pub_link/Collateral/846B-02.PDF
footprint ONSC-MICRO-10-846B-03_V (SOP, 10-Leads, Body 3.1x3.1mm, Pitch 0.5mm)
pins: 1 SD SEL (in) "(Note 1)", 2 INM (in) "Negative Differential Input", 3 SD MODE (in) "Shutdown High or Low Selectivity (Note 1)", 4 INP (in) "Positive Differential Input", 5 BYPASS "Bypass Capacitor Pin which Provides the Common Mode Voltage", 6 OUTB (out) "Negative BTL Output", 7 VM (power) "Ground", 8 NC, 9 VP (power) "Positive Analog Supply of the Cell", 10 OUTA (out) "Positive BTL Output"

## NCP4894FCT1
designator U?
1.8 W Differential Audio Power Amplifier with Selectable Shutdown, -40 to 85 degC, 9-Pin FLIP-CHIP, Tape and Reel; Manufacturer: On Semiconductor; PartNumber: NCP4894FCT1; ISD Typ (nA): 20; ton Typ (ms): 140; DatasheetVersion: Rev. 9; PackageVersion: Rev. O, 08/2004; PackageReference: FLIP-CHIP-9-499AL-01; PackageDescription: 9-Ball Flip Chip Ball Grid Array, Body 1.45 x 1.45 mm, Pitch 0.5 mm; Supplier 1: Digi-Key; Supplier Part Number 1: NCP4894FCT1-ND; Packing: Tape and Reel; RoHS: FALSE; Mounting Technology: Surface Mount; ComponentLink1Description: Manufacturer URL; ComponentLink1URL: http://www.onsemi.com/; ComponentLink2Description: Datasheet; ComponentLink2URL: http://www.onsemi.cn/pub_link/Collateral/NCP4894-D.PDF; ComponentLink3Description: Package Specification; ComponentLink3URL: http://www.onsemi.com/pub_link/Collateral/499AL.PDF
footprint ONSC-FLIP-CHIP-9-499AL-01 (BGA, 9-Balls, Body 1.45x1.45mm, Pitch 0.5mm)
pins: A1 INP (in) "Positive Differential Input", A2 BYPASS "Bypass Capacitor Pin which Provides the Common Mode Voltage", A3 OUTB (out) "Negative BTL Output", B1 VP (power) "Positive Analog Supply of the Cell", B2 SD MODE (in) "Shutdown High or Low Selectivity (Note 1)", B3 VM (power) "Ground", C1 INM (in) "Negative Differential Input", C2 SD SEL (in) "(Note 1)", C3 OUTA (out) "Positive BTL Output"

## NCP4894FCT1G
designator U?
1.8 W Differential Audio Power Amplifier with Selectable Shutdown, -40 to 85 degC, 9-Pin FLIP-CHIP, Pb-Free, Tape and Reel; Manufacturer: On Semiconductor; PartNumber: NCP4894FCT1G; ISD Typ (nA): 20; ton Typ (ms): 140; DatasheetVersion: Rev. 9; PackageVersion: Rev. O, 08/2004; PackageReference: FLIP-CHIP-9-499AL-01; PackageDescription: 9-Ball Flip Chip Ball Grid Array, Body 1.45 x 1.45 mm, Pitch 0.5 mm; Supplier 1: Digi-Key; Supplier Part Number 1: NCP4894FCT1GOSTR-ND; Supplier 2: Digi-Key; Supplier Part Number 2: NCP4894FCT1GOSCT-ND; Supplier 3: Mouser; Supplier Part Number 3: 863-NCP4894FCT1G; Packing: Tape and Reel; RoHS: TRUE; Mounting Technology: Surface Mount; ComponentLink1Description: Manufacturer URL; ComponentLink1URL: http://www.onsemi.com/; ComponentLink2Description: Datasheet; ComponentLink2URL: http://www.onsemi.cn/pub_link/Collateral/NCP4894-D.PDF; ComponentLink3Description: Package Specification; ComponentLink3URL: http://www.onsemi.com/pub_link/Collateral/499AL.PDF
footprint ONSC-FLIP-CHIP-9-499AL-01 (BGA, 9-Balls, Body 1.45x1.45mm, Pitch 0.5mm)
pins: A1 INP (in) "Positive Differential Input", A2 BYPASS "Bypass Capacitor Pin which Provides the Common Mode Voltage", A3 OUTB (out) "Negative BTL Output", B1 VP (power) "Positive Analog Supply of the Cell", B2 SD MODE (in) "Shutdown High or Low Selectivity (Note 1)", B3 VM (power) "Ground", C1 INM (in) "Negative Differential Input", C2 SD SEL (in) "(Note 1)", C3 OUTA (out) "Positive BTL Output"

## NCP4894MNR2
designator U?
1.8 W Differential Audio Power Amplifier with Selectable Shutdown, -40 to 85 degC, 10-Pin DFN, Tape and Reel; Manufacturer: On Semiconductor; PartNumber: NCP4894MNR2; ISD Typ (nA): 20; ton Typ (ms): 140; DatasheetVersion: Rev. 9; PackageVersion: Rev. A, 10/2005; PackageReference: DFN-10-485C_A; PackageDescription: 10-Pin Small Outline No-Lead, Body 3 x 3 mm, Pitch 0.5 mm; Supplier 1: Digi-Key; Supplier Part Number 1: NCP4894MNR2-ND; Supplier 2: Mouser; Supplier Part Number 2: 863-NCP4894MNR2; Packing: Tape and Reel; RoHS: FALSE; Mounting Technology: Surface Mount; ComponentLink1Description: Manufacturer URL; ComponentLink1URL: http://www.onsemi.com/; ComponentLink2Description: Datasheet; ComponentLink2URL: http://www.onsemi.cn/pub_link/Collateral/NCP4894-D.PDF; ComponentLink3Description: Package Specification; ComponentLink3URL: http://www.onsemi.cn/pub_link/Collateral/NLAS4684-D.PDF
footprint ONSC-DFN-10-485C_A_V (SON, 10-Leads, Body 3x3mm, Pitch 0.5mm, Thermal Pad 1.851x2.602mm)
pins: 1 SD SEL (in) "The SD SELECT pin must be toggled to the same state as the SD MODE pin to force the device in shutdown mode.", 2 INM (in) "Negative Differential Input", 3 SD MODE (in) "Shutdown High or Low Selectivity", 4 INP (in) "Positive Differential Input", 5 BYPASS "Bypass Capacitor Pin which Provides the Common Mode Voltage", 6 OUTB (out) "Negative BTL Output", 7 VM (power) "Ground", 8 NC "NO CONNECTION", 9 VP (power) "Positive Analog Supply of the Cell", 10 OUTA (out) "Positive BTL Output", 11 EP

## NCP4894MNR2G
designator U?
1.8 W Differential Audio Power Amplifier with Selectable Shutdown, -40 to 85 degC, 10-Pin DFN, Pb-Free, Tape and Reel; Manufacturer: On Semiconductor; PartNumber: NCP4894MNR2G; ISD Typ (nA): 20; ton Typ (ms): 140; DatasheetVersion: Rev. 9; PackageVersion: Rev. A, 10/2005; PackageReference: DFN-10-485C_A; PackageDescription: 10-Pin Small Outline No-Lead, Body 3 x 3 mm, Pitch 0.5 mm; Supplier 1: Digi-Key; Supplier Part Number 1: NCP4894MNR2GOSTR-ND; Supplier 2: Digi-Key; Supplier Part Number 2: NCP4894MNR2GOSCT-ND; Supplier 3: Mouser; Supplier Part Number 3: 863-NCP4894MNR2G; Packing: Tape and Reel; RoHS: TRUE; Mounting Technology: Surface Mount; ComponentLink1Description: Manufacturer URL; ComponentLink1URL: http://www.onsemi.com/; ComponentLink2Description: Datasheet; ComponentLink2URL: http://www.onsemi.cn/pub_link/Collateral/NCP4894-D.PDF; ComponentLink3Description: Package Specification; ComponentLink3URL: http://www.onsemi.cn/pub_link/Collateral/NLAS4684-D.PDF
footprint ONSC-DFN-10-485C_A_V (SON, 10-Leads, Body 3x3mm, Pitch 0.5mm, Thermal Pad 1.851x2.602mm)
pins: 1 SD SEL (in) "The SD SELECT pin must be toggled to the same state as the SD MODE pin to force the device in shutdown mode.", 2 INM (in) "Negative Differential Input", 3 SD MODE (in) "Shutdown High or Low Selectivity", 4 INP (in) "Positive Differential Input", 5 BYPASS "Bypass Capacitor Pin which Provides the Common Mode Voltage", 6 OUTB (out) "Negative BTL Output", 7 VM (power) "Ground", 8 NC "NO CONNECTION", 9 VP (power) "Positive Analog Supply of the Cell", 10 OUTA (out) "Positive BTL Output", 11 EP

## NCS2211DG
designator U?
Low Distortion Audio Power Amplifier with Differential Output and Shutdown Mode, -40 to 85 degC, 8-Pin SOIC, Pb-Free, Tube; Manufacturer: On Semiconductor; PartNumber: NCS2211DG; ton Typ (ms): 0.001; DatasheetVersion: Rev. 3; PackageVersion: Rev. AK, 02/2011; PackageReference: SOIC-8-751-07; PackageDescription: 8-Pin Small Outline Integrated Circuit, Body 4.9 x 3.9 mm, Pitch 1.27 mm; Packing: Tube; RoHS: TRUE; Mounting Technology: Surface Mount; ComponentLink1Description: Manufacturer URL; ComponentLink1URL: http://www.onsemi.com/; ComponentLink2Description: Datasheet; ComponentLink2URL: http://www.onsemi.cn/pub_link/Collateral/NCS2211-D.PDF; ComponentLink3Description: Package Specification; ComponentLink3URL: http://www.onsemi.com/pub_link/Collateral/751-07.PDF
footprint ONSC-SOIC-8-751-07_V (SOIC, 8-Leads, Body 4.9x3.9mm, Pitch 1.27mm)
pins: 1 EN (in) "Enable (LOW)/Shutdown (HIGH)", 2 BIAS "Bias Output at (VCC-VEE)/2; Bypass with Capacitor to Reduce Noise", 3 IN+ (in) "Non-Inverting Input", 4 IN- (in) "Inverting Input", 5 OUT+ (out) "Output+", 6 VCC (power) "Positive Supply (Bypass with 10 uF in parallel with 0.1 uF)", 7 VEE (power) "Negative Supply (Connect to GND for Single-Supply Operation)", 8 OUT- (out) "Output-"

## NCS2211DR2G
designator U?
Low Distortion Audio Power Amplifier with Differential Output and Shutdown Mode, -40 to 85 degC, 8-Pin SOIC, Pb-Free, Tape and Reel; Manufacturer: On Semiconductor; PartNumber: NCS2211DR2G; ISD Typ (nA): 1000; ton Typ (ms): 0.001; DatasheetVersion: Rev. 3; PackageVersion: Rev. AK, 02/2011; PackageReference: SOIC-8-751-07; PackageDescription: 8-Pin Small Outline Integrated Circuit, Body 4.9 x 3.9 mm, Pitch 1.27 mm; Supplier 1: Digi-Key; Supplier Part Number 1: NCS2211DR2GOSTR-ND; Supplier 2: Digi-Key; Supplier Part Number 2: NCS2211DR2GOSCT-ND; Supplier 3: Digi-Key; Supplier Part Number 3: NCS2211DR2GOSDKR-ND; Supplier 4: Newark; Supplier Part Number 4: 95M6840; Supplier 5: Mouser; Supplier Part Number 5: 863-NCS2211DR2G; Packing: Tape and Reel; RoHS: TRUE; Mounting Technology: Surface Mount; ComponentLink1Description: Manufacturer URL; ComponentLink1URL: http://www.onsemi.com/; ComponentLink2Description: Datasheet; ComponentLink2URL: http://www.onsemi.cn/pub_link/Collateral/NCS2211-D.PDF; ComponentLink3Description: Package Specification; ComponentLink3URL: http://www.onsemi.com/pub_link/Collateral/751-07.PDF
footprint ONSC-SOIC-8-751-07_V (SOIC, 8-Leads, Body 4.9x3.9mm, Pitch 1.27mm)
pins: 1 EN (in) "Enable (LOW)/Shutdown (HIGH)", 2 BIAS "Bias Output at (VCC-VEE)/2; Bypass with Capacitor to Reduce Noise", 3 IN+ (in) "Non-Inverting Input", 4 IN- (in) "Inverting Input", 5 OUT+ (out) "Output+", 6 VCC (power) "Positive Supply (Bypass with 10 uF in parallel with 0.1 uF)", 7 VEE (power) "Negative Supply (Connect to GND for Single-Supply Operation)", 8 OUT- (out) "Output-"

## NCS2211MNTXG
designator U?
Low Distortion Audio Power Amplifier with Differential Output and Shutdown Mode, -40 to 85 degC, 8-Pin DFN, Pb-Free, Tape and Reel; Manufacturer: On Semiconductor; PartNumber: NCS2211MNTXG; ISD Typ (nA): 1000; ton Typ (ms): 0.001; DatasheetVersion: Rev. 3; PackageVersion: Rev. O, 11/2007; PackageReference: DFN-8-506BJ-01; PackageDescription: 8-Pin Small Outline No-Lead, Body 3 x 3 mm, Pitch 0.5 mm; Supplier 1: Digi-Key; Supplier Part Number 1: NCS2211MNTXG-ND; Supplier 2: Mouser; Supplier Part Number 2: 863-NCS2211MNTXG; Packing: Tape and Reel; RoHS: TRUE; Mounting Technology: Surface Mount; ComponentLink1Description: Manufacturer URL; ComponentLink1URL: http://www.onsemi.com/; ComponentLink2Description: Datasheet; ComponentLink2URL: http://www.onsemi.cn/pub_link/Collateral/NCS2211-D.PDF; ComponentLink3Description: Package Specification; ComponentLink3URL: http://www.onsemi.com/pub_link/Collateral/506BJ.PDF
footprint ONSC-DFN-8-506BJ-01_V (SON, 8-Leads, Body 3x3mm, Pitch 0.5mm, Thermal Pad 1.85x1.55mm)
pins: 1 EN (in) "Enable (LOW)/Shutdown (HIGH)", 2 BIAS "Bias Output at (VCC-VEE)/2; Bypass with Capacitor to Reduce Noise", 3 IN+ (in) "Non-Inverting Input", 4 IN- (in) "Inverting Input", 5 OUT+ (out) "Output+", 6 VCC (power) "Positive Supply (Bypass with 10 uF in parallel with 0.1 uF)", 7 VEE (power) "Negative Supply (Connect to GND for Single-Supply Operation)", 8 OUT- (out) "Output-"

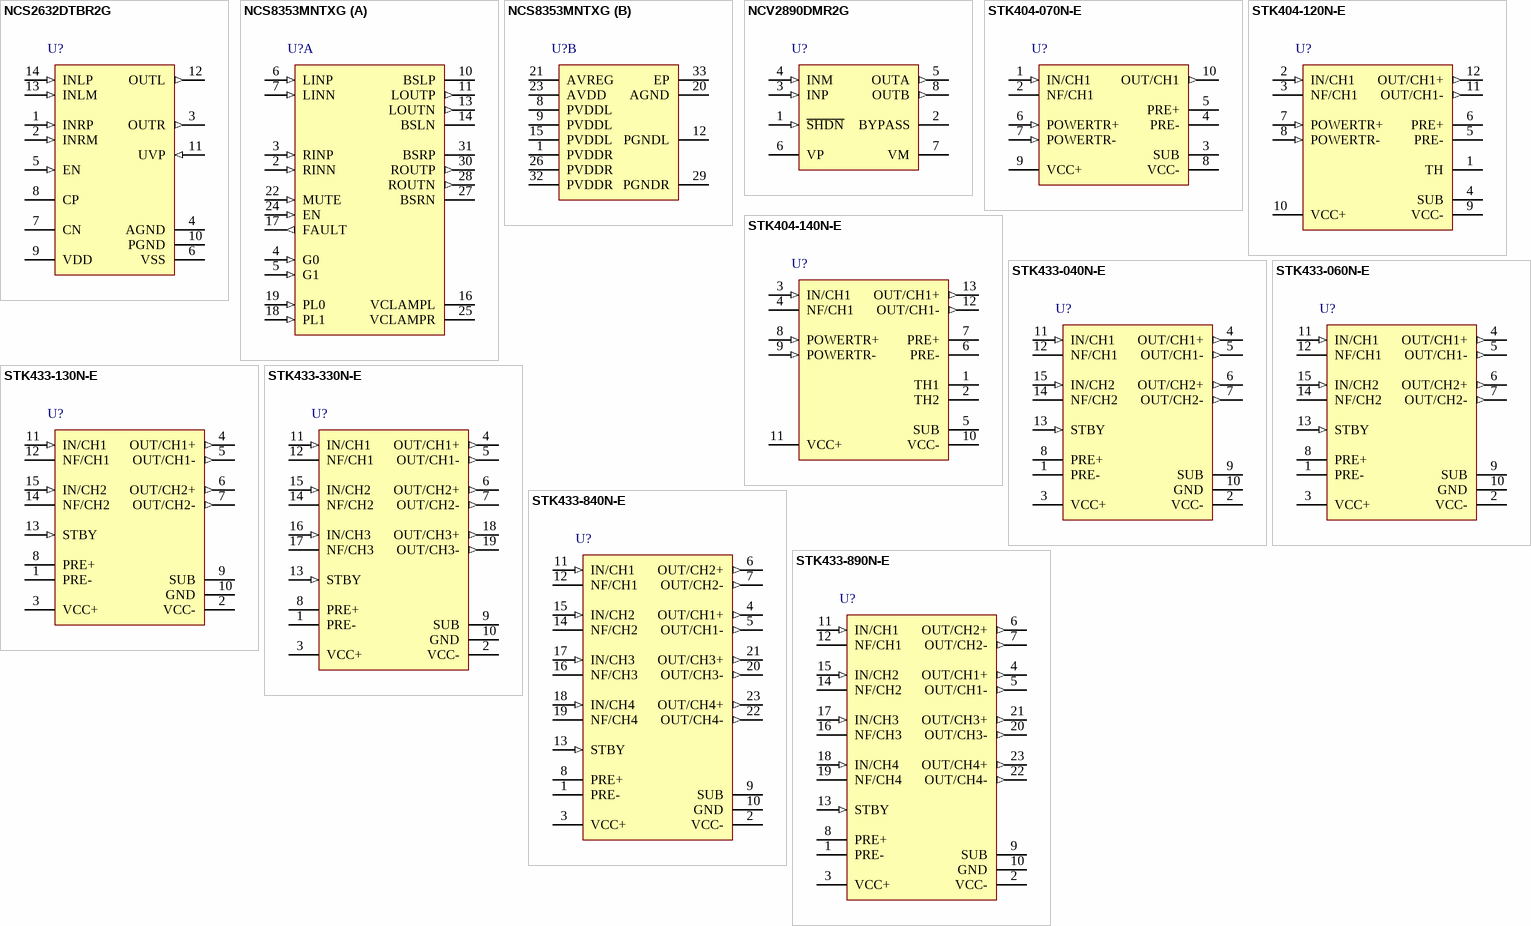
[diagram p3: symbols NCS2632DTBR2G to STK433-890N-E]

## NCS2632DTBR2G
designator U?
NOCAP(TM), Pop-Free, 3 VRMS Audio Line Driver with Adjustable Gain, -40 to 85 degC, 14-Pin TSSOP, Pb-Free, Tape and Reel; Manufacturer: On Semiconductor; PartNumber: NCS2632DTBR2G; ISD Typ (nA): 60; DatasheetVersion: Rev. 4; PackageVersion: Rev. B, 10/2006; PackageReference: TSSOP-14-948G-01; PackageDescription: 14-Pin Small Outline Package, Body 5 x 4.4 mm, Pitch 0.65 mm; Supplier 1: Digi-Key; Supplier Part Number 1: NCS2632DTBR2GOSTR-ND; Supplier 2: Digi-Key; Supplier Part Number 2: NCS2632DTBR2GOSCT-ND; Supplier 3: Digi-Key; Supplier Part Number 3: NCS2632DTBR2GOSDKR-ND; Supplier 4: Newark; Supplier Part Number 4: 11X3607; Supplier 5: Newark; Supplier Part Number 5: 28X4856; Supplier 6: Mouser; Supplier Part Number 6: 863-NCS2632DTBR2G; Packing: Tape and Reel; RoHS: TRUE; Mounting Technology: Surface Mount; ComponentLink1Description: Manufacturer URL; ComponentLink1URL: http://www.onsemi.com/; ComponentLink2Description: Datasheet; ComponentLink2URL: http://www.onsemi.com/pub_link/Collateral/NCS2632-D.PDF; ComponentLink3Description: Package Specification; ComponentLink3URL: http://www.onsemi.com/pub_link/Collateral/948G-01.PDF
footprint ONSC-TSSOP-14-948G-01_V (SOP, 14-Leads, Body 5.1x4.5mm, Pitch 0.65mm)
pins: 1 INRP (in) "Right channel positive input", 2 INRM (in) "Right channel negative input", 3 OUTR (out) "Right channel output", 4 AGND (power) "Analog ground. Connect to PGND", 5 EN (in) "Enable pin. Active High", 6 VSS (power) "Negative rail output. Connected to ground through 1 F low ESR ceramic reservoir capacitor.", 7 CN "Flying capacitor Negative terminal. Connected to CP through 1 F low ESR ceramic capacitor.", 8 CP "Flying capacitor Positive terminal. Connected to CN through 1 F low ESR ceramic capacitor.", 9 VDD (power) "Power Supply Input", 10 PGND (power) "Power ground", 11 UVP (in) "Under-voltage detection pin.", 12 OUTL (out) "Left Channel Output", 13 INLM (in) "Left channel negative input", 14 INLP (in) "Left channel positive input"

## NCS8353MNTXG
designator U?
Stereo 20 W/Ch Class-D Audio Power Amplifier with Programmable Power Limit and Selectable Gain, -40 to 85 degC, 32-Pin QFN, Pb-Free, Tape and Reel; Manufacturer: On Semiconductor; PartNumber: NCS8353MNTXG; Efficiency Typ (%): 83; ISD Typ (nA): 100000; ton Typ (ms): 250; DatasheetVersion: Rev. 3; PackageVersion: Rev. O; PackageReference: QFN-32-488AM-01_O; PackageDescription: 32-Pin Quad Flat No-Lead, Body 5 x 5 mm, Pitch 0.5 mm; Supplier 1: Digi-Key; Supplier Part Number 1: NCS8353MNTXG-ND; Supplier 2: Mouser; Supplier Part Number 2: 863-NCS8353MNTXG; Packing: Tape and Reel; RoHS: TRUE; Mounting Technology: Surface Mount; ComponentLink1Description: Manufacturer URL; ComponentLink1URL: http://www.onsemi.com/; ComponentLink2Description: Datasheet; ComponentLink2URL: http://www.onsemi.com/pub_link/Collateral/NCS8353-D.PDF; ComponentLink3Description: Package Specification; ComponentLink3URL: http://www.onsemi.com/pub_link/Collateral/MC100EPT622-D.PDF
footprint ONSC-QFN-32-488AM-01_O_V (QFN, 32-Leads, Body 5x5mm, Pitch 0.5mm, Thermal Pad 3.2x3.2mm)
part A pins: 2 RINN (in) "Right Input ? Negative.", 3 RINP (in) "Right Input ? Positive.", 4 G0 (in) "LSB Gain Setting.", 5 G1 (in) "MSB Gain Setting.", 6 LINP (in) "Left Input Positive.", 7 LINN (in) "Left Input Negative.", 10 BSLP "Bootstrap for positive left speaker output.", 11 LOUTP (out) "Positive Left Speaker Output.", 13 LOUTN (out) "Negative Left Speaker Output.", 14 BSLN "Bootstrap for negative left speaker output.", 16 VCLAMPL "Internal voltage supply for left channel bootstrap capacitor.", 17 FAULT (out) "TTL compatible output. Asserts HIGH during thermal shutdown or short circuit conditions.", 18 PL1 (in) "MSB ? Power Limit.", 19 PL0 (in) "LSB ? Power Limit.", 22 MUTE (in) "TTL compatible input. Mutes the device when a logic HIGH is present.", 24 EN (in) "TTL compatible input. Enable for right and left channels when logic HIGH is present.", 25 VCLAMPR "Internal voltage supply for right channel bootstrap capacitor.", 27 BSRN "Bootstrap for right negative output.", 28 ROUTN (out) "Negative right speaker output.", 30 ROUTP (out) "Positive right speaker output.", 31 BSRP "Bootstrap for right positive output."
part B pins: 1 PVDDR (power) "Power supply for right channel.", 8 PVDDL (power) "Power supply for left channel.", 9 PVDDL (power) "Power supply for left channel.", 12 PGNDL (power) "Power ground for left channel.", 15 PVDDL (power) "Power supply for left channel.", 20 AGND (power) "Analog ground reference.", 21 AVREG (power) "Regulator output voltage.", 23 AVDD (power) "Analog high voltage supply.", 26 PVDDR (power) "Power supply for right channel.", 29 PGNDR (power) "Power ground for right channel.", 32 PVDDR (power) "Power supply for right channel.", 33 EP (power)

## NCV2890DMR2G
designator U?
1.0 W Audio Power Amplifier, -40 to 85 degC, 8-Pin MICRO, Pb-Free, Tape and Reel; Manufacturer: On Semiconductor; PartNumber: NCV2890DMR2G; ISD Typ (nA): 10; ton Typ (ms): 285; DatasheetVersion: Rev. 10; PackageVersion: Rev. H; PackageReference: MICRO-8-846A-02_H; PackageDescription: 8-Pin Small Outline Package, Body 3 x 3 mm, Pitch 0.65 mm; Supplier 1: Mouser; Supplier Part Number 1: 863-NCV2890DMR2G; Packing: Tape and Reel; RoHS: TRUE; Mounting Technology: Surface Mount; ComponentLink1Description: Manufacturer URL; ComponentLink1URL: http://www.onsemi.com/; ComponentLink2Description: Datasheet; ComponentLink2URL: http://www.onsemi.com/pub_link/Collateral/NCP2890-D.PDF; ComponentLink3Description: Package Specification; ComponentLink3URL: http://www.onsemi.com/pub_link/Collateral/NLSV2T244-D.PDF
footprint ONSC-MICRO-8-846A-02_H_V (SOIC, 8-Leads, Body 3.1x3.1mm, Pitch 0.65mm)
pins: 1 ~{SHDN} (in) "The device enters in shutdown mode when a low level is applied on this pin.", 2 BYPASS "Bypass capacitor pin which provides the common mode voltage (Vp/2).", 3 INP (in) "Positive input of the first amplifier, receives the common mode voltage.", 4 INM (in) "Negative input of the first amplifier, receives the audio input signal. Connected to the feedback resistor Rf and to the input resistor Rin.", 5 OUTA (out) "Negative output of the NCP2890. Connected to the load and to the feedback resistor Rf.", 6 VP (power) "Positive analog supply of the cell. Range: 2.2 V-5.5 V.", 7 VM (power) "Core Analog Ground.", 8 OUTB (out) "Positive output of the NCP2890. Connected to the load."